# Altium schematic symbol library SCH - MCU - STM32 - ST MICROELECTRONICS STM32F334C8YX WLCSP49.SchLib: 1 symbol
Pins are listed as number, name and electrical type; pins without a type are passive.

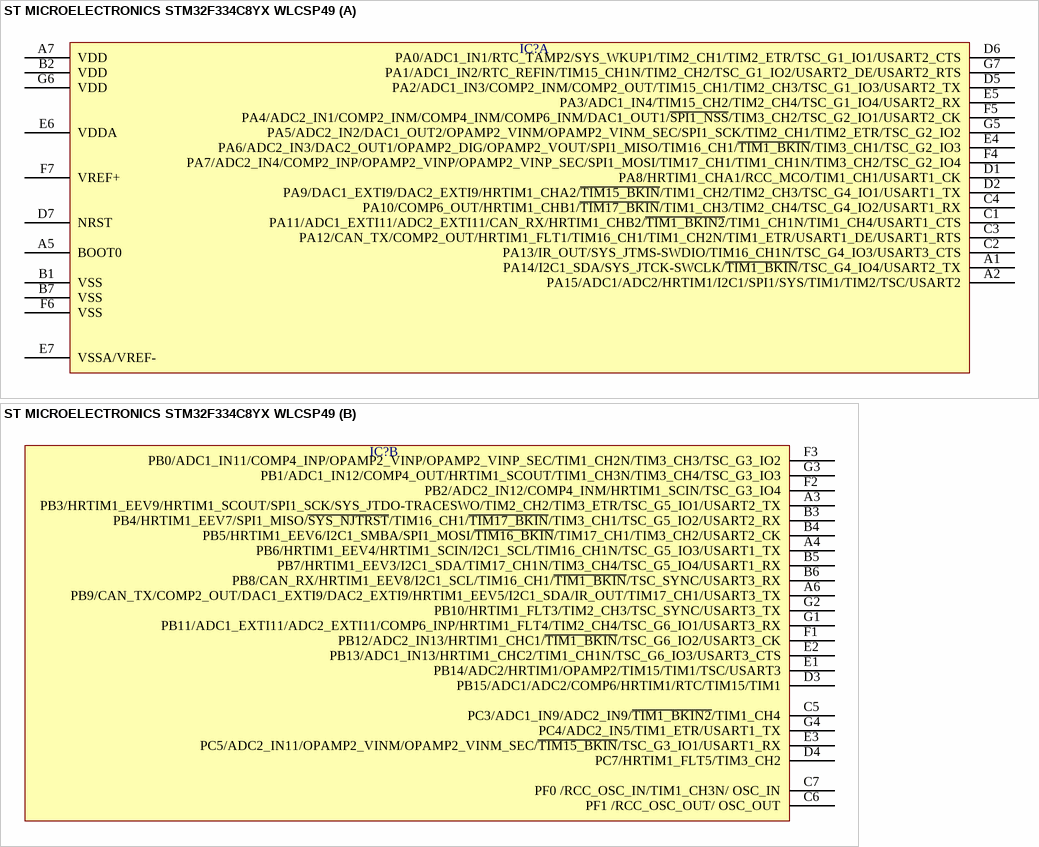
[diagram p0: symbol ST MICROELECTRONICS STM32F334C8YX WLCSP49]

## ST MICROELECTRONICS STM32F334C8YX WLCSP49
designator IC?  (value not drawn)
part A pins: A1 PA14/I2C1_SDA/SYS_JTCK-SWCLK/~{TIM1_BKIN}/TSC_G4_IO4/USART2_TX, A2 PA15/ADC1/ADC2/HRTIM1/I2C1/SPI1/SYS/TIM1/TIM2/TSC/USART2, A5 BOOT0, A7 VDD, B1 VSS, B2 VDD, B7 VSS, C1 PA11/ADC1_EXTI11/ADC2_EXTI11/CAN_RX/HRTIM1_CHB2/~{TIM1_BKIN2}/TIM1_CH1N/TIM1_CH4/USART1_CTS, C2 PA13/IR_OUT/SYS_JTMS-SWDIO/TIM16_CH1N/TSC_G4_IO3/USART3_CTS, C3 PA12/CAN_TX/COMP2_OUT/HRTIM1_FLT1/TIM16_CH1/TIM1_CH2N/TIM1_ETR/USART1_DE/USART1_RTS, C4 PA10/COMP6_OUT/HRTIM1_CHB1/~{TIM17_BKIN}/TIM1_CH3/TIM2_CH4/TSC_G4_IO2/USART1_RX, D1 PA8/HRTIM1_CHA1/RCC_MCO/TIM1_CH1/USART1_CK, D2 PA9/DAC1_EXTI9/DAC2_EXTI9/HRTIM1_CHA2/~{TIM15_BKIN}/TIM1_CH2/TIM2_CH3/TSC_G4_IO1/USART1_TX, D5 PA2/ADC1_IN3/COMP2_INM/COMP2_OUT/TIM15_CH1/TIM2_CH3/TSC_G1_IO3/USART2_TX, D6 PA0/ADC1_IN1/RTC_TAMP2/SYS_WKUP1/TIM2_CH1/TIM2_ETR/TSC_G1_IO1/USART2_CTS, D7 NRST, E4 PA6/ADC2_IN3/DAC2_OUT1/OPAMP2_DIG/OPAMP2_VOUT/SPI1_MISO/TIM16_CH1/~{TIM1_BKIN}/TIM3_CH1/TSC_G2_IO3, E5 PA3/ADC1_IN4/TIM15_CH2/TIM2_CH4/TSC_G1_IO4/USART2_RX, E6 VDDA, E7 VSSA/VREF-, F4 PA7/ADC2_IN4/COMP2_INP/OPAMP2_VINP/OPAMP2_VINP_SEC/SPI1_MOSI/TIM17_CH1/TIM1_CH1N/TIM3_CH2/TSC_G2_IO4, F5 PA4/ADC2_IN1/COMP2_INM/COMP4_INM/COMP6_INM/DAC1_OUT1/~{SPI1_NSS}/TIM3_CH2/TSC_G2_IO1/USART2_CK, F6 VSS, F7 VREF+, G5 PA5/ADC2_IN2/DAC1_OUT2/OPAMP2_VINM/OPAMP2_VINM_SEC/SPI1_SCK/TIM2_CH1/TIM2_ETR/TSC_G2_IO2, G6 VDD, G7 PA1/ADC1_IN2/RTC_REFIN/TIM15_CH1N/TIM2_CH2/TSC_G1_IO2/USART2_DE/USART2_RTS
part B pins: A3 PB3/HRTIM1_EEV9/HRTIM1_SCOUT/SPI1_SCK/SYS_JTDO-TRACESWO/TIM2_CH2/TIM3_ETR/TSC_G5_IO1/USART2_TX, A4 PB6/HRTIM1_EEV4/HRTIM1_SCIN/I2C1_SCL/TIM16_CH1N/TSC_G5_IO3/USART1_TX, A6 PB9/CAN_TX/COMP2_OUT/DAC1_EXTI9/DAC2_EXTI9/HRTIM1_EEV5/I2C1_SDA/IR_OUT/TIM17_CH1/USART3_TX, B3 PB4/HRTIM1_EEV7/SPI1_MISO/~{SYS_NJTRST}/TIM16_CH1/~{TIM17_BKIN}/TIM3_CH1/TSC_G5_IO2/USART2_RX, B4 PB5/HRTIM1_EEV6/I2C1_SMBA/SPI1_MOSI/~{TIM16_BKIN}/TIM17_CH1/TIM3_CH2/USART2_CK, B5 PB7/HRTIM1_EEV3/I2C1_SDA/TIM17_CH1N/TIM3_CH4/TSC_G5_IO4/USART1_RX, B6 PB8/CAN_RX/HRTIM1_EEV8/I2C1_SCL/TIM16_CH1/~{TIM1_BKIN}/TSC_SYNC/USART3_RX, C5 PC3/ADC1_IN9/ADC2_IN9/~{TIM1_BKIN2}/TIM1_CH4, C6 PF1 /RCC_OSC_OUT/ OSC_OUT, C7 PF0 /RCC_OSC_IN/TIM1_CH3N/ OSC_IN, D3 PB15/ADC1/ADC2/COMP6/HRTIM1/RTC/TIM15/TIM1, D4 PC7/HRTIM1_FLT5/TIM3_CH2, E1 PB14/ADC2/HRTIM1/OPAMP2/TIM15/TIM1/TSC/USART3, E2 PB13/ADC1_IN13/HRTIM1_CHC2/TIM1_CH1N/TSC_G6_IO3/USART3_CTS, E3 PC5/ADC2_IN11/OPAMP2_VINM/OPAMP2_VINM_SEC/~{TIM15_BKIN}/TSC_G3_IO1/USART1_RX, F1 PB12/ADC2_IN13/HRTIM1_CHC1/~{TIM1_BKIN}/TSC_G6_IO2/USART3_CK, F2 PB2/ADC2_IN12/COMP4_INM/HRTIM1_SCIN/TSC_G3_IO4, F3 PB0/ADC1_IN11/COMP4_INP/OPAMP2_VINP/OPAMP2_VINP_SEC/TIM1_CH2N/TIM3_CH3/TSC_G3_IO2, G1 PB11/ADC1_EXTI11/ADC2_EXTI11/COMP6_INP/HRTIM1_FLT4/TIM2_CH4/TSC_G6_IO1/USART3_RX, G2 PB10/HRTIM1_FLT3/TIM2_CH3/TSC_SYNC/USART3_TX, G3 PB1/ADC1_IN12/COMP4_OUT/HRTIM1_SCOUT/TIM1_CH3N/TIM3_CH4/TSC_G3_IO3, G4 PC4/ADC2_IN5/TIM1_ETR/USART1_TX